# Altium schematic symbol library SN74LVC.SchLib: 2 symbols
Pins are listed as number, name and electrical type; pins without a type are passive.

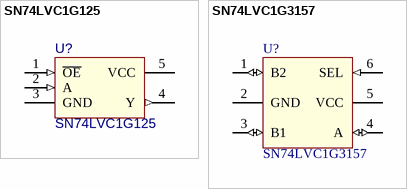
[diagram p0: symbols SN74LVC1G125 to SN74LVC1G3157]

## SN74LVC1G125
designator U?
Single Bus Buffer Gate With 3-State Output; value: SN74LVC1G125
footprint SOT-23-5 (SOT23, 5-Leads, Body 2.9x1.6mm, Pitch 0.95mm, Lead Span 2.8mm, IPC Medium Density)
pins: 1 ~{OE} (in), 2 A (in), 3 GND (power), 4 Y (out), 5 VCC (power)

## SN74LVC1G3157
designator U?
Single-Pole Double-Throw Analog Switch; value: SN74LVC1G3157
footprint SOT-23-6 (Footprint not found)
footprint SC70-6 (SC6 Package 6-Lead Plastic SC70)
pins: 1 B2 (io), 2 GND (power), 3 B1 (io), 4 A (io), 5 VCC (power), 6 SEL (in)